# Altium schematic symbol library crystal.SchLib: 1 symbol
Pins are listed as number, name and electrical type; pins without a type are passive.

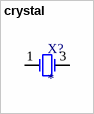
[diagram p0: symbol crystal]

## crystal
designator X?
footprint crystal
pins: 1 OSC1, 3 OSC2